# Altium footprint library PcbLib1.PcbLib: 1 footprints
Each footprint in its own frame and in the unit in brackets; x right, y up, seen from the top. Pads: shape width x height; smd on the part's side, far side on the other; paste and mask are expansions set on the pad; w line width, h text height; cw(c..) or ccw(c..) is an arc to the next point about the centre after c.
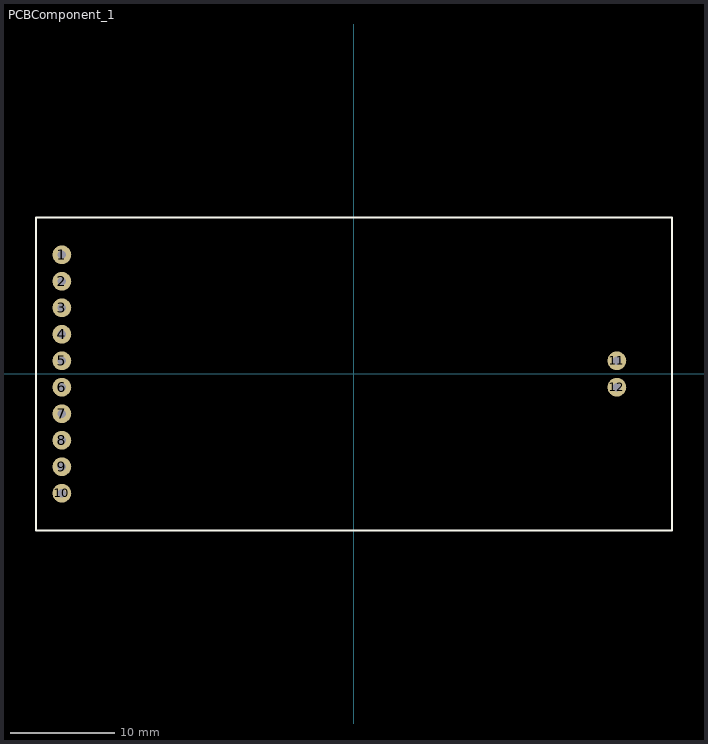
[diagram p0: the footprint, top view; thin cyan lines are the x and y axes]

## PCBComponent_1 [mm]
pads (12):
  round 1.8 hole 0.8: 1(-28,11.43) 2(-28,8.89) 3(-28,6.35) 4(-28,3.81) 5(-28,1.27) 6(-28,-1.27) 7(-28,-3.81) 8(-28,-6.35) 9(-28,-8.89) 10(-28,-11.43) 11(25.2,1.27) 12(25.2,-1.27)
Top Overlay:
  lines w0.2: -30.5,-15 -30.5,15 30.5,15 30.5,-15 -30.5,-15